# EAGLE library part AD5933 (library Orlando)
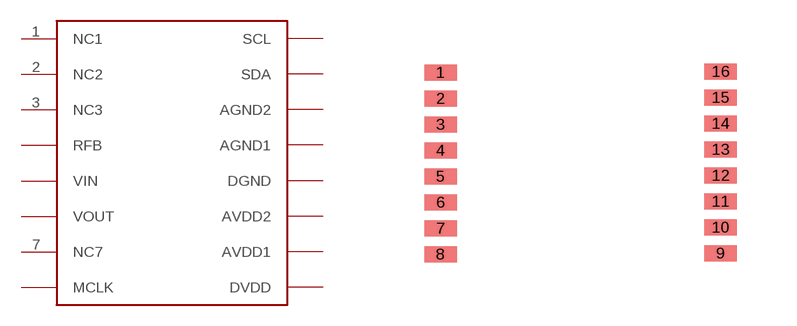
[diagram p1: symbol with the pads of SSOP-16; footprint SSOP-16]

Designator prefix -

## AD5933  [SSOP-16]
1  NC1
2  NC2
3  NC3
4  RFB
5  VIN
6  VOUT
7  NC7
8  MCLK
9  DVDD
10  AVDD1
11  AVDD2
12  DGND
13  AGND1
14  AGND2
15  SDA
16  SCL

## Footprint SSOP-16 (pad centres in mm)
smd 0.813 x 0.406: 1 -3.383,2.017; 2 -3.383,1.367; 3 -3.383,0.716; 4 -3.383,0.066; 5 -3.383,-0.584; 6 -3.383,-1.234; 7 -3.383,-1.885; 8 -3.383,-2.535; 9 3.627,-2.51; 10 3.627,-1.859; 11 3.627,-1.209; 12 3.627,-0.559; 13 3.627,0.091; 14 3.627,0.742; 15 3.627,1.392; 16 3.627,2.042